# Altium schematic symbol library Header_6P.Schlib: 1 symbol
Pins are listed as number, name and electrical type; pins without a type are passive.

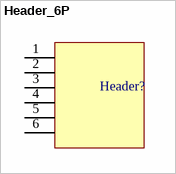
[diagram p0: symbol Header_6P]

## Header_6P
designator Header?
footprint Header_ISP_6P
footprint Header_ISP_6P_SMD
pins: 1, 2 (power), 3, 4, 5, 6 (power)